# Altium schematic symbol library 2021-05-17_02-47-14.SchLib: 2 symbols
Pins are listed as number, name and electrical type; pins without a type are passive.

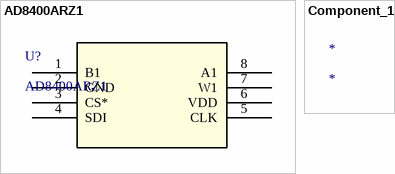
[diagram p0: symbols AD8400ARZ1 to Component_1]

## AD8400ARZ1
designator U?
No Description Available; SourceLibrary: Analog_2012-01-01_5; Built_By: EMA_UL_Team; Vendor: Analog Devices Inc; Manufacturer_Part_Number: AD8400ARZ1; Copyright: Copyright (C) 2018 Accelerated Designs. All rights reserved; RefDes: RefDes; Type: DEV
footprint R_8_ADI
pins: 1 B1, 2 GND, 3 CS*, 4 SDI, 5 CLK, 6 VDD (power), 7 W1, 8 A1

## Component_1
designator *